# EAGLE library part C520D (library linear)
Przetwornik A/C z wyswietlaczem trzycyfrowym
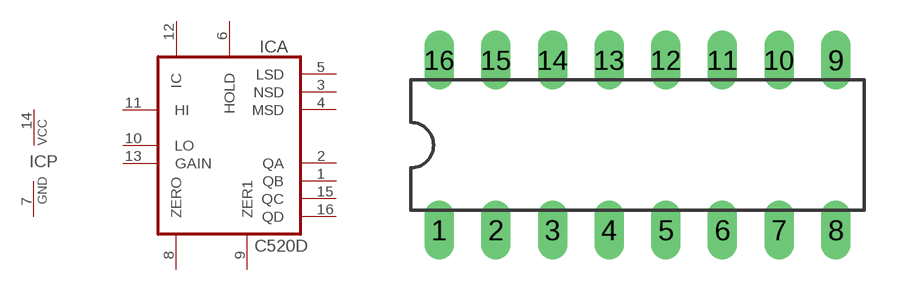
[diagram p260: symbol with the pads of DIL16; footprint DIL16]

Designator prefix IC; gates A=C520 P=PWRN

## C520D  [DIL16]
1  A:QB  out
2  A:QA  out
3  A:NSD  out
4  A:MSD  out
5  A:LSD  out
6  A:HOLD  in
7  P:GND  pwr
8  A:ZERO
9  A:ZER1
10  A:LO  in
11  A:HI  in
12  A:IC
13  A:GAIN  in
14  P:VCC  pwr
15  A:QC  out
16  A:QD  out

## Footprint DIL16 (pad centres in mm)
Dual In Line Package
drill 0.813 long: 1 -8.89,-3.81; 2 -6.35,-3.81; 3 -3.81,-3.81; 4 -1.27,-3.81; 5 1.27,-3.81; 6 3.81,-3.81; 7 6.35,-3.81; 8 8.89,-3.81; 9 8.89,3.81; 10 6.35,3.81; 11 3.81,3.81; 12 1.27,3.81; 13 -1.27,3.81; 14 -3.81,3.81; 15 -6.35,3.81; 16 -8.89,3.81